# Altium integrated library nRF2789_Dual Wireless Mic RX .IntLib: 20 symbols
Pins are listed as number, name and electrical type; pins without a type are passive.

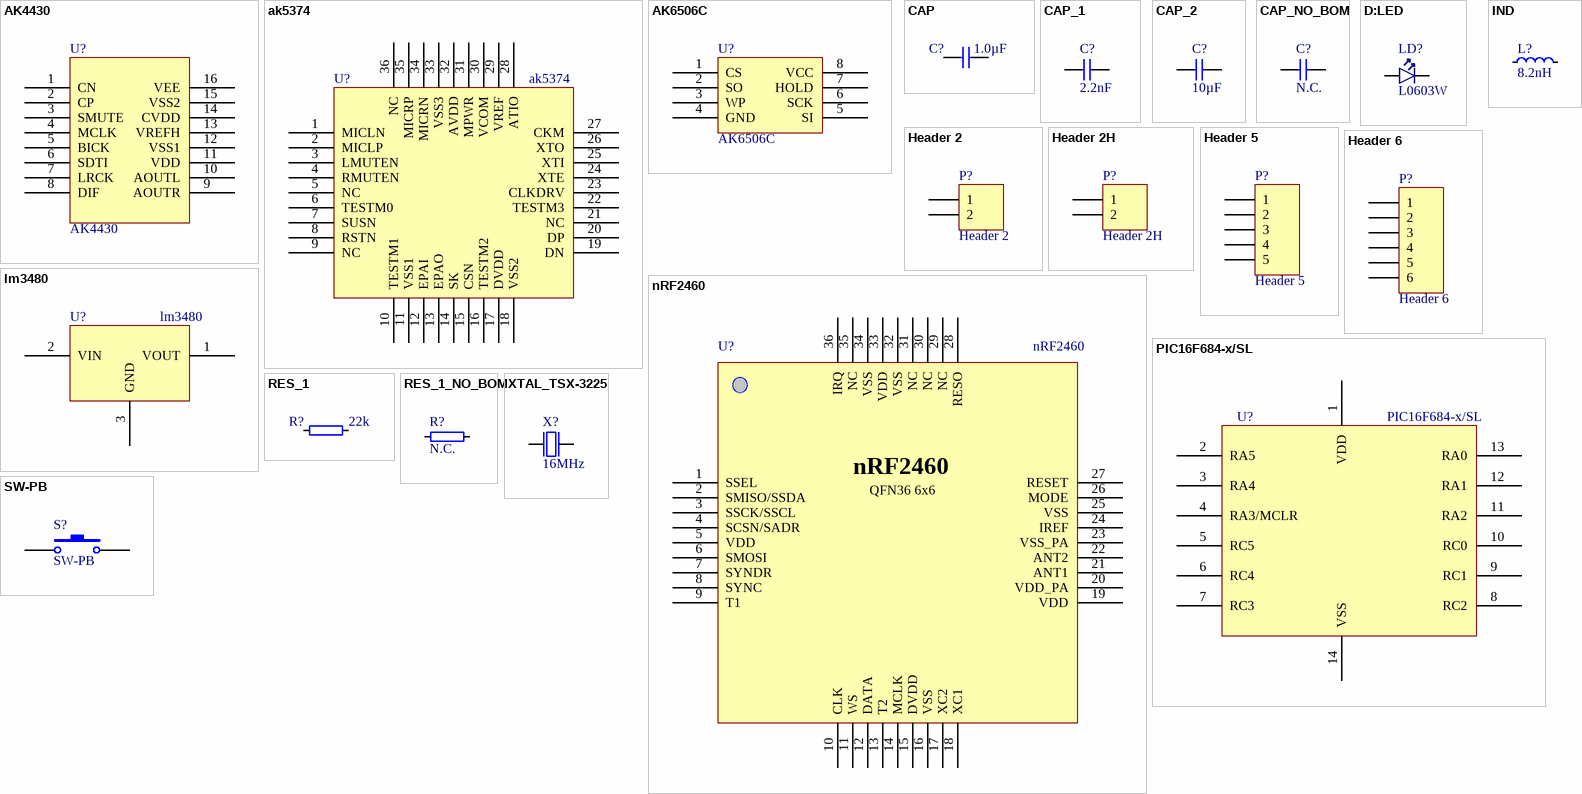
[diagram p0: symbols AK4430 to XTAL_TSX-3225]

## AK4430
designator U?
footprint TSOP65P640X110-16N (TSOP, 16-Leads, Body 5,1x4,5mm (max), Pitch 0,65mm, IPC Medium Density)
pins: 1 CN, 2 CP, 3 SMUTE, 4 MCLK, 5 BICK, 6 SDTI, 7 LRCK, 8 DIF, 9 AOUTR, 10 AOUTL, 11 VDD, 12 VSS1, 13 VREFH, 14 CVDD, 15 VSS2, 16 VEE

## ak5374
designator U?
footprint QFN40P500X500X80-36N (QFN, 36-Leads, Body 5,1x5,1mm (max), Pitch 0,40mm, IPC Medium Density)
pins: 1 MICLN, 2 MICLP, 3 LMUTEN, 4 RMUTEN, 5 NC, 6 TESTM0, 7 SUSN, 8 RSTN, 9 NC, 10 TESTM1, 11 VSS1, 12 EPAI, 13 EPAO, 14 SK, 15 CSN, 16 TESTM2, 17 DVDD, 18 VSS2, 19 DN, 20 DP, 21 NC, 22 TESTM3, 23 CLKDRV, 24 XTE, 25 XTI, 26 XTO, 27 CKM, 28 ATIO, 29 VREF, 30 VCOM, 31 MPWR, 32 AVDD, 33 VSS3, 34 MICRN, 35 MICRP, 36 NC

## AK6506C
designator U?
footprint TSOP65P400X95-8N (TSOP, 8-Leads, Body 2.8x2.8mm (max), Pitch 0.65mm, IPC Medium Density)
pins: 1 CS, 2 SO, 3 WP, 4 GND, 5 SI, 6 SCK, 7 HOLD, 8 VCC

## CAP
designator C?, comment 1.0µF
Chip Cap 0603; Part Number: C0603-1µ0; Note: Chip Cap 10%; Artikkelnr Noca: 20039205; Manufacturer: *; Manufacturer Part Number: *; Datasheet: *; Footprint: 0603s; LatestRevisionDate: 2009-11-23; Pin Count: 2; Publisher: Nordic Semiconductor; Published: 2009-05-08; Value: 1.0µF; Supplier: *; Supplier part number: *; 2nd source Supplier: *; 2nd source part number: *
footprint 0603s
pins: 1, 2

## CAP_1
designator C?, comment 2.2nF
Chip Cap 0402; Part Number: C0402-2n2; Note: Chip Cap 10%; Artikkelnr Noca: 20039221; Manufacturer: *; Manufacturer Part Number: *; Datasheet: *; Footprint: 0402s; LatestRevisionDate: 2009-11-23; Pin Count: 2; Publisher: Nordic Semiconductor; Published: 2009-05-08; Value: 2.2nF; Supplier: *; Supplier part number: *; 2nd source Supplier: *; 2nd source part number: *
footprint 0402s
pins: 1, 2

## CAP_2
designator C?, comment 10µF
Chip Cap 0805; Part Number: C0805-10µ; Note: Chip Cap 10%; Artikkelnr Noca: 20039243; Manufacturer: *; Manufacturer Part Number: *; Datasheet: *; Footprint: 0805; LatestRevisionDate: 2010-06-03; Pin Count: 2; Publisher: Nordic Semiconductor; Published: 2010-06-03; Value: 10µF; Supplier: *; Supplier part number: *; 2nd source Supplier: *; 2nd source part number: *
footprint 0805
pins: 1, 2

## CAP_NO_BOM
designator C?, comment N.C.  (no BOM)
Chip Cap 0402; Part Number: C0402-N.C.; Artikkelnr Noca: N.A.; Manufacturer: *; Manufacturer Part Number: *; Datasheet: *; Footprint: 0402s; LatestRevisionDate: 2009-05-08; Pin Count: 2; Publisher: Nordic Semiconductor; Published: 2009-05-08; Value: N.C.; Note: Chip Cap; Supplier: *; Supplier part number: *; 2nd source Supplier: *; 2nd source part number: *
footprint 0402s
pins: 1, 2

## D:LED
designator LD?, comment L0603W
LED 0603, 19-213/W1D; Manufacturer: Everlight; Note: 45 mcd; Artikkelnr Noca: N.A.; Part Number: 19-213/W1D; Manufacturer Part Number: *; Datasheet: *; Footprint: 0603; LatestRevisionDate: 2009-05-18; Pin Count: 2; Publisher: Nordic Semiconductor; Published: 2009-05-18; Value: L0603W; Supplier: *; Supplier part number: *; 2nd source Supplier: *; 2nd source part number: *
footprint LED_0603
pins: 1 C, 2 A

## Header 2
designator P?
Header, 2-Pin; LatestRevisionDate: 17-Jul-2002; LatestRevisionNote: Re-released for DXP Platform.; Publisher: Altium Limited
footprint HDR1X2 (Connector; Header; 2 Position)
signal-integrity model Connector
pins: 1, 2

## Header 2H
designator P?
Header, 2-Pin, Right Angle; LatestRevisionDate: 17-Jul-2002; LatestRevisionNote: Re-released for DXP Platform.; Publisher: Altium Limited
footprint RCA
signal-integrity model Connector
pins: 1, 2

## Header 5
designator P?
Header, 5-Pin; LatestRevisionDate: 17-Jul-2002; LatestRevisionNote: Re-released for DXP Platform.; Publisher: Altium Limited
footprint Mini USB-B
signal-integrity model Connector
pins: 1, 2, 3, 4, 5

## Header 6
designator P?
Header, 6-Pin; LatestRevisionDate: 17-Jul-2002; LatestRevisionNote: Re-released for DXP Platform.; Publisher: Altium Limited
footprint HDR1X6 (Connector; Header; 6 Position)
signal-integrity model Connector
pins: 1, 2, 3, 4, 5, 6

## IND
designator L?, comment 8.2nH
Chip Ind 0402; Part Number: L0402-8n2; Manufacturer: Murata; Manufacturer Part Number: LQP15MN8N2B02D; Note: LQP15MN8N2B02D 8.2nH 110mA 0402; Artikkelnr Noca: 33029139; Datasheet: http://search.murata.co.jp/Ceramy/image/img/PDF/ENG/L0075S0084LQP15M.pdf; Footprint: 0402; LatestRevisionDate: 2009-11-23; Pin Count: 2; Publisher: Nordic Semiconductor; Published: 2009-05-08; Value: 8.2nH; Supplier: Digi-Key; Supplier part number: 490-1135-1-ND; 2nd source Supplier: *; 2nd source part number: *
footprint 0402s
pins: 1, 2

## lm3480
designator U?
footprint SOT95P237X112-3N (SOT23, 3-Leads, Body 3,0x2,6mm (max), Pitch 0,95mm, IPC Medium Density)
pins: 1 VOUT, 2 VIN, 3 GND

## nRF2460
designator U?
2.4GHz Single Chip Wireless Audio Streamer; Manufacturer: Nordic Semiconductor; Note: nRF2460 QFN36; Artikkelnr Noca: N.A.; Part Number: nRF2460; Manufacturer Part Number: nRF2460; Datasheet: *; Footprint: QFN-36; LatestRevisionDate: 2011-03-01; Pin Count: 36; Publisher: Nordic Semiconductor; Published: 2011-03-01; Value: nRF2460; Supplier: Nordic; Supplier part number: *; 2nd source Supplier: *; 2nd source part number: *
footprint Nordic_QFN36
pins: 1 SSEL, 2 SMISO/SSDA, 3 SSCK/SSCL, 4 SCSN/SADR, 5 VDD, 6 SMOSI, 7 SYNDR, 8 SYNC, 9 T1, 10 CLK, 11 WS, 12 DATA, 13 T2, 14 MCLK, 15 DVDD, 16 VSS, 17 XC2, 18 XC1, 19 VDD, 20 VDD_PA, 21 ANT1, 22 ANT2, 23 VSS_PA, 24 IREF, 25 VSS, 26 MODE, 27 RESET, 28 RESO, 29 NC, 30 NC, 31 NC, 32 VSS, 33 VDD, 34 VSS, 35 NC, 36 IRQ
text: QFN36 6x6

## PIC16F684-x/SL
designator U?
footprint TSOP65P640X120-14N (TSOP, 14-Leads, Body 5,1x4,5mm (max), Pitch 0,65mm, IPC Medium Density)
pins: 1 VDD, 2 RA5, 3 RA4, 4 RA3/MCLR, 5 RC5, 6 RC4, 7 RC3, 8 RC2, 9 RC1, 10 RC0, 11 RA2, 12 RA1, 13 RA0, 14 VSS

## RES_1
designator R?, comment 22k
Chip Res 0402; Part Number: R0402-22k; Note: Chip Res 1%; Artikkelnr Noca: 27049105; Manufacturer: *; Manufacturer Part Number: *; Datasheet: *; Footprint: 0402; LatestRevisionDate: 2009-11-23; Pin Count: 2; Publisher: Nordic Semiconductor; Published: 2009-05-08; Value: 22k; Supplier: *; Supplier part number: *; 2nd source Supplier: *; 2nd source part number: *
footprint 0402s
pins: 1, 2

## RES_1_NO_BOM
designator R?, comment N.C.  (no BOM)
Chip Res 0402; Part Number: R0402-N.C.; Manufacturer: *; Manufacturer Part Number: *; Datasheet: *; Footprint: 0402; LatestRevisionDate: 2009-05-08; Pin Count: 2; Publisher: Nordic Semiconductor; Published: 2009-05-08; Value: N.C.; Note: Chip Res; Supplier: *; Supplier part number: *; 2nd source Supplier: *; 2nd source part number: *; Artikkelnr Noca: *
footprint 0402s
pins: 1, 2

## SW-PB
designator S?
Switch; Published: 24-Mar-1999; LatestRevisionDate: 17-Jul-2002; LatestRevisionNote: Re-released for DXP Platform.; PackageReference: SPST-2; Publisher: Altium Limited; PackageDescription: Switch; 2 Leads
footprint E-Switch
pins: 1, 2

## XTAL_TSX-3225
designator X?, comment 16MHz
XTAL SMD 16MHz, 9pF, Mercury; Part Number: XTAL SMD 16MHz (3225); Note: XTAL SMD 16MHz 3225; Artikkelnr Noca: 22019087; Manufacturer: *; Manufacturer Part Number: *; Datasheet: http://ndap3-net.ebz.epson.co.jp/w/www/PDFS/epdoc_qd.nsf/85a4e2c523a1f89349257068002f9e30/31e98956c8f991cd4925707c003b38b1/$FILE/FA-238_238V_TSX-3225_E08X.pdf; Footprint: BT-XTAL_3225; LatestRevisionDate: 2010-02-24; Pin Count: 4; Publisher: Nordic Semiconductor; Published: 2009-05-30; Value: 16MHz; Supplier: *; Supplier part number: *; 2nd source Supplier: *; 2nd source part number: *
footprint BT-XTAL_3225
pins: 1 inp, 2 GND hidden to GND, 3 out, 4 GND hidden to GND